# Altium schematic symbol library kmilo17pet-NSC_Switcher.SchLib: 2226 symbols (part 50 of 59)
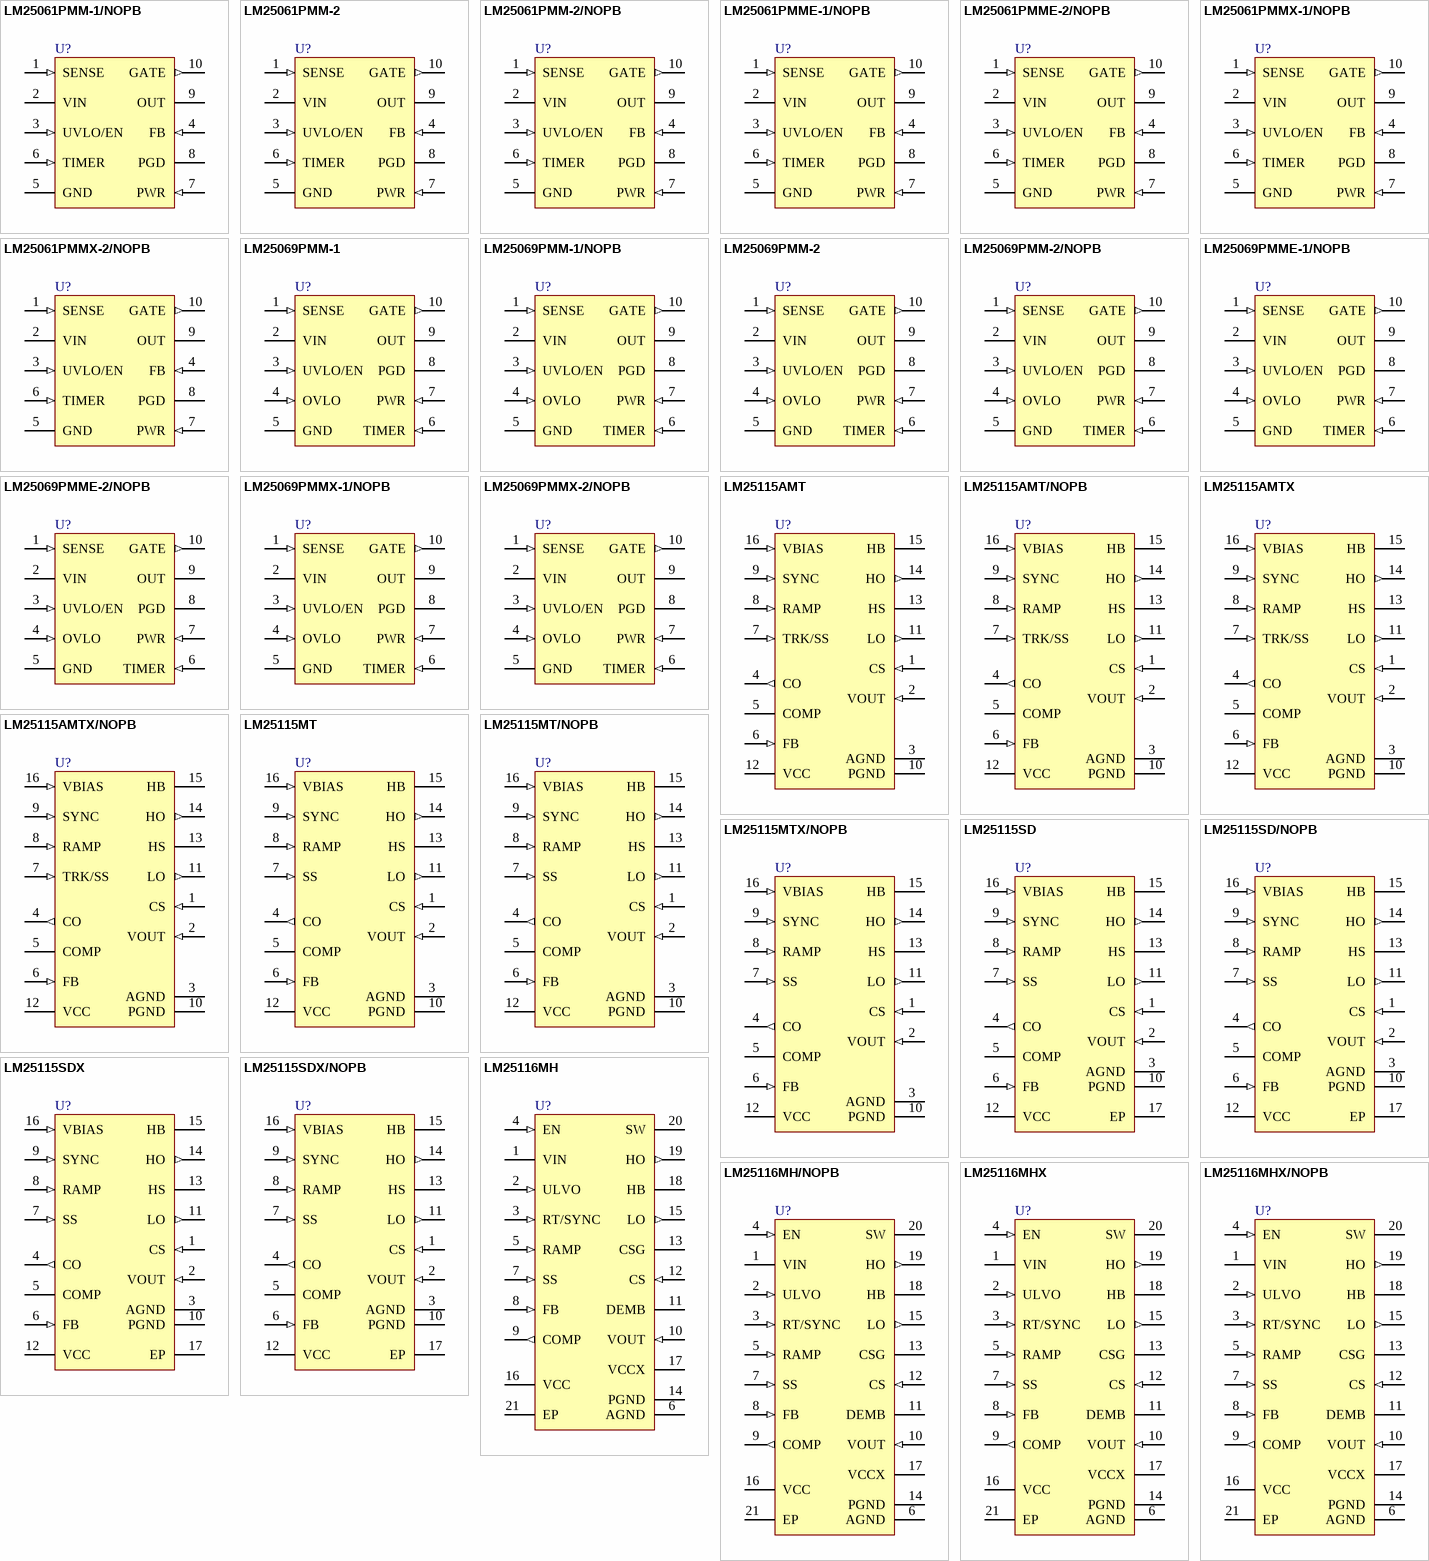
[diagram p118: symbols LM25061PMM-1/NOPB to LM25116MHX/NOPB]

## LM25061PMME-1/NOPB
designator U?
Positive Low Voltage Power Limiting Hot Swap Controller, 10-pin MSOP, Pb-Free; PartNumber: LM25061PMME-1/NOPB; Manufacturer: National Semiconductor; PackageTopMarking: ZXTT*SXSB; PowerWise: N; CompType: Switcher; High-Reliability: Y; DatasheetVersion: Jul-2009; PackageVersion: revB, Jul-2003; PackageReference: MUB10A; PackageDescription: Mini-SO, Molded, .118 x .118 x .034in Body, 10 Lead, .0197in Pitch; RoHS: Y; PinCount: 10; Code_JEDEC: MO-187-BA; ComponentLink1Description: Manufacturer URL; ComponentLink1URL: http://www.national.com/; ComponentLink2Description: LM25061 Datasheet; ComponentLink2URL: http://www.national.com/ds/LM/LM25061.pdf; ComponentLink3Description: LM25061 Web Page; ComponentLink3URL: http://www.national.com/pf/LM/LM25061.html; ComponentLink4Description: MUB10A Package Page; ComponentLink4URL: http://www.national.com/packaging/folders/mub10a.html
footprint MUB10A_N (TSSOP, 10-Leads, Body 3x3mm, Pitch 0.5mm, IPC Medium Density)
footprint MUB10A_L (TSSOP, 10-Leads, Body 3x3mm, Pitch 0.5mm, IPC High Density)
footprint MUB10A_M (TSSOP, 10-Leads, Body 3x3mm, Pitch 0.5mm, IPC Low Density)
pins: 1 SENSE (in), 2 VIN (power), 3 UVLO/EN (in), 4 FB (in), 5 GND (power), 6 TIMER (in), 7 PWR (in), 8 PGD (oc), 9 OUT (power), 10 GATE (out)

## LM25061PMME-2/NOPB
designator U?
Positive Low Voltage Power Limiting Hot Swap Controller, 10-pin MSOP, Pb-Free; PartNumber: LM25061PMME-2/NOPB; Manufacturer: National Semiconductor; PackageTopMarking: ZXTT*SXRB; PowerWise: N; CompType: Switcher; High-Reliability: Y; DatasheetVersion: Jul-2009; PackageVersion: revB, Jul-2003; PackageReference: MUB10A; PackageDescription: Mini-SO, Molded, .118 x .118 x .034in Body, 10 Lead, .0197in Pitch; RoHS: Y; PinCount: 10; Code_JEDEC: MO-187-BA; ComponentLink1Description: Manufacturer URL; ComponentLink1URL: http://www.national.com/; ComponentLink2Description: LM25061 Datasheet; ComponentLink2URL: http://www.national.com/ds/LM/LM25061.pdf; ComponentLink3Description: LM25061 Web Page; ComponentLink3URL: http://www.national.com/pf/LM/LM25061.html; ComponentLink4Description: MUB10A Package Page; ComponentLink4URL: http://www.national.com/packaging/folders/mub10a.html
footprint MUB10A_N (TSSOP, 10-Leads, Body 3x3mm, Pitch 0.5mm, IPC Medium Density)
footprint MUB10A_L (TSSOP, 10-Leads, Body 3x3mm, Pitch 0.5mm, IPC High Density)
footprint MUB10A_M (TSSOP, 10-Leads, Body 3x3mm, Pitch 0.5mm, IPC Low Density)
pins: 1 SENSE (in), 2 VIN (power), 3 UVLO/EN (in), 4 FB (in), 5 GND (power), 6 TIMER (in), 7 PWR (in), 8 PGD (oc), 9 OUT (power), 10 GATE (out)

## LM25061PMMX-1/NOPB
designator U?
Positive Low Voltage Power Limiting Hot Swap Controller, 10-pin MSOP, Pb-Free; PartNumber: LM25061PMMX-1/NOPB; Manufacturer: National Semiconductor; PackageTopMarking: ZXTT*SXSB; PowerWise: N; CompType: Switcher; High-Reliability: Y; DatasheetVersion: Jul-2009; PackageVersion: revB, Jul-2003; PackageReference: MUB10A; PackageDescription: Mini-SO, Molded, .118 x .118 x .034in Body, 10 Lead, .0197in Pitch; RoHS: Y; PinCount: 10; Code_JEDEC: MO-187-BA; ComponentLink1Description: Manufacturer URL; ComponentLink1URL: http://www.national.com/; ComponentLink2Description: LM25061 Datasheet; ComponentLink2URL: http://www.national.com/ds/LM/LM25061.pdf; ComponentLink3Description: LM25061 Web Page; ComponentLink3URL: http://www.national.com/pf/LM/LM25061.html; ComponentLink4Description: MUB10A Package Page; ComponentLink4URL: http://www.national.com/packaging/folders/mub10a.html
footprint MUB10A_N (TSSOP, 10-Leads, Body 3x3mm, Pitch 0.5mm, IPC Medium Density)
footprint MUB10A_L (TSSOP, 10-Leads, Body 3x3mm, Pitch 0.5mm, IPC High Density)
footprint MUB10A_M (TSSOP, 10-Leads, Body 3x3mm, Pitch 0.5mm, IPC Low Density)
pins: 1 SENSE (in), 2 VIN (power), 3 UVLO/EN (in), 4 FB (in), 5 GND (power), 6 TIMER (in), 7 PWR (in), 8 PGD (oc), 9 OUT (power), 10 GATE (out)

## LM25061PMMX-2/NOPB
designator U?
Positive Low Voltage Power Limiting Hot Swap Controller, 10-pin MSOP, Pb-Free; PartNumber: LM25061PMMX-2/NOPB; Manufacturer: National Semiconductor; PackageTopMarking: ZXTT*SXRB; PowerWise: N; CompType: Switcher; High-Reliability: Y; DatasheetVersion: Jul-2009; PackageVersion: revB, Jul-2003; PackageReference: MUB10A; PackageDescription: Mini-SO, Molded, .118 x .118 x .034in Body, 10 Lead, .0197in Pitch; RoHS: Y; PinCount: 10; Code_JEDEC: MO-187-BA; ComponentLink1Description: Manufacturer URL; ComponentLink1URL: http://www.national.com/; ComponentLink2Description: LM25061 Datasheet; ComponentLink2URL: http://www.national.com/ds/LM/LM25061.pdf; ComponentLink3Description: LM25061 Web Page; ComponentLink3URL: http://www.national.com/pf/LM/LM25061.html; ComponentLink4Description: MUB10A Package Page; ComponentLink4URL: http://www.national.com/packaging/folders/mub10a.html
footprint MUB10A_N (TSSOP, 10-Leads, Body 3x3mm, Pitch 0.5mm, IPC Medium Density)
footprint MUB10A_L (TSSOP, 10-Leads, Body 3x3mm, Pitch 0.5mm, IPC High Density)
footprint MUB10A_M (TSSOP, 10-Leads, Body 3x3mm, Pitch 0.5mm, IPC Low Density)
pins: 1 SENSE (in), 2 VIN (power), 3 UVLO/EN (in), 4 FB (in), 5 GND (power), 6 TIMER (in), 7 PWR (in), 8 PGD (oc), 9 OUT (power), 10 GATE (out)

## LM25069PMM-1
designator U?
Positive Low Voltage Power Limiting Hot Swap Controller, 10-pin MSOP; PartNumber: LM25069PMM-1; Manufacturer: National Semiconductor; PackageTopMarking: ZXTT*SXNB; PowerWise: N; CompType: Switcher; High-Reliability: Y; DatasheetVersion: Jul-2009; PackageVersion: revB, Jul-2003; PackageReference: MUB10A; PackageDescription: Mini-SO, Molded, .118 x .118 x .034in Body, 10 Lead, .0197in Pitch; RoHS: Y; PinCount: 10; Code_JEDEC: MO-187-BA; ComponentLink1Description: Manufacturer URL; ComponentLink1URL: http://www.national.com/; ComponentLink2Description: LM25069 Datasheet; ComponentLink2URL: http://www.national.com/ds/LM/LM25069.pdf; ComponentLink3Description: LM25069 Web Page; ComponentLink3URL: http://www.national.com/pf/LM/LM25069.html; ComponentLink4Description: MUB10A Package Page; ComponentLink4URL: http://www.national.com/packaging/folders/mub10a.html
footprint MUB10A_N (TSSOP, 10-Leads, Body 3x3mm, Pitch 0.5mm, IPC Medium Density)
footprint MUB10A_L (TSSOP, 10-Leads, Body 3x3mm, Pitch 0.5mm, IPC High Density)
footprint MUB10A_M (TSSOP, 10-Leads, Body 3x3mm, Pitch 0.5mm, IPC Low Density)
pins: 1 SENSE (in), 2 VIN (power), 3 UVLO/EN (in), 4 OVLO (in), 5 GND (power), 6 TIMER (in), 7 PWR (in), 8 PGD (oc), 9 OUT (power), 10 GATE (out)

## LM25069PMM-1/NOPB
designator U?
Positive Low Voltage Power Limiting Hot Swap Controller, 10-pin MSOP, Pb-Free; PartNumber: LM25069PMM-1/NOPB; Manufacturer: National Semiconductor; PackageTopMarking: ZXTT*SXNB; PowerWise: N; CompType: Switcher; High-Reliability: Y; DatasheetVersion: Jul-2009; PackageVersion: revB, Jul-2003; PackageReference: MUB10A; PackageDescription: Mini-SO, Molded, .118 x .118 x .034in Body, 10 Lead, .0197in Pitch; RoHS: Y; PinCount: 10; Code_JEDEC: MO-187-BA; ComponentLink1Description: Manufacturer URL; ComponentLink1URL: http://www.national.com/; ComponentLink2Description: LM25069 Datasheet; ComponentLink2URL: http://www.national.com/ds/LM/LM25069.pdf; ComponentLink3Description: LM25069 Web Page; ComponentLink3URL: http://www.national.com/pf/LM/LM25069.html; ComponentLink4Description: MUB10A Package Page; ComponentLink4URL: http://www.national.com/packaging/folders/mub10a.html
footprint MUB10A_N (TSSOP, 10-Leads, Body 3x3mm, Pitch 0.5mm, IPC Medium Density)
footprint MUB10A_L (TSSOP, 10-Leads, Body 3x3mm, Pitch 0.5mm, IPC High Density)
footprint MUB10A_M (TSSOP, 10-Leads, Body 3x3mm, Pitch 0.5mm, IPC Low Density)
pins: 1 SENSE (in), 2 VIN (power), 3 UVLO/EN (in), 4 OVLO (in), 5 GND (power), 6 TIMER (in), 7 PWR (in), 8 PGD (oc), 9 OUT (power), 10 GATE (out)

## LM25069PMM-2
designator U?
Positive Low Voltage Power Limiting Hot Swap Controller, 10-pin MSOP; PartNumber: LM25069PMM-2; Manufacturer: National Semiconductor; PackageTopMarking: ZXTT*SXLB; PowerWise: N; CompType: Switcher; High-Reliability: Y; DatasheetVersion: Jul-2009; PackageVersion: revB, Jul-2003; PackageReference: MUB10A; PackageDescription: Mini-SO, Molded, .118 x .118 x .034in Body, 10 Lead, .0197in Pitch; RoHS: Y; PinCount: 10; Code_JEDEC: MO-187-BA; ComponentLink1Description: Manufacturer URL; ComponentLink1URL: http://www.national.com/; ComponentLink2Description: LM25069 Datasheet; ComponentLink2URL: http://www.national.com/ds/LM/LM25069.pdf; ComponentLink3Description: LM25069 Web Page; ComponentLink3URL: http://www.national.com/pf/LM/LM25069.html; ComponentLink4Description: MUB10A Package Page; ComponentLink4URL: http://www.national.com/packaging/folders/mub10a.html
footprint MUB10A_N (TSSOP, 10-Leads, Body 3x3mm, Pitch 0.5mm, IPC Medium Density)
footprint MUB10A_L (TSSOP, 10-Leads, Body 3x3mm, Pitch 0.5mm, IPC High Density)
footprint MUB10A_M (TSSOP, 10-Leads, Body 3x3mm, Pitch 0.5mm, IPC Low Density)
pins: 1 SENSE (in), 2 VIN (power), 3 UVLO/EN (in), 4 OVLO (in), 5 GND (power), 6 TIMER (in), 7 PWR (in), 8 PGD (oc), 9 OUT (power), 10 GATE (out)

## LM25069PMM-2/NOPB
designator U?
Positive Low Voltage Power Limiting Hot Swap Controller, 10-pin MSOP, Pb-Free; PartNumber: LM25069PMM-2/NOPB; Manufacturer: National Semiconductor; PackageTopMarking: ZXTT*SXLB; PowerWise: N; CompType: Switcher; High-Reliability: Y; DatasheetVersion: Jul-2009; PackageVersion: revB, Jul-2003; PackageReference: MUB10A; PackageDescription: Mini-SO, Molded, .118 x .118 x .034in Body, 10 Lead, .0197in Pitch; RoHS: Y; PinCount: 10; Code_JEDEC: MO-187-BA; ComponentLink1Description: Manufacturer URL; ComponentLink1URL: http://www.national.com/; ComponentLink2Description: LM25069 Datasheet; ComponentLink2URL: http://www.national.com/ds/LM/LM25069.pdf; ComponentLink3Description: LM25069 Web Page; ComponentLink3URL: http://www.national.com/pf/LM/LM25069.html; ComponentLink4Description: MUB10A Package Page; ComponentLink4URL: http://www.national.com/packaging/folders/mub10a.html
footprint MUB10A_N (TSSOP, 10-Leads, Body 3x3mm, Pitch 0.5mm, IPC Medium Density)
footprint MUB10A_L (TSSOP, 10-Leads, Body 3x3mm, Pitch 0.5mm, IPC High Density)
footprint MUB10A_M (TSSOP, 10-Leads, Body 3x3mm, Pitch 0.5mm, IPC Low Density)
pins: 1 SENSE (in), 2 VIN (power), 3 UVLO/EN (in), 4 OVLO (in), 5 GND (power), 6 TIMER (in), 7 PWR (in), 8 PGD (oc), 9 OUT (power), 10 GATE (out)

## LM25069PMME-1/NOPB
designator U?
Positive Low Voltage Power Limiting Hot Swap Controller, 10-pin MSOP, Pb-Free; PartNumber: LM25069PMME-1/NOPB; Manufacturer: National Semiconductor; PackageTopMarking: ZXTT*SXNB; PowerWise: N; CompType: Switcher; High-Reliability: Y; DatasheetVersion: Jul-2009; PackageVersion: revB, Jul-2003; PackageReference: MUB10A; PackageDescription: Mini-SO, Molded, .118 x .118 x .034in Body, 10 Lead, .0197in Pitch; RoHS: Y; PinCount: 10; Code_JEDEC: MO-187-BA; ComponentLink1Description: Manufacturer URL; ComponentLink1URL: http://www.national.com/; ComponentLink2Description: LM25069 Datasheet; ComponentLink2URL: http://www.national.com/ds/LM/LM25069.pdf; ComponentLink3Description: LM25069 Web Page; ComponentLink3URL: http://www.national.com/pf/LM/LM25069.html; ComponentLink4Description: MUB10A Package Page; ComponentLink4URL: http://www.national.com/packaging/folders/mub10a.html
footprint MUB10A_N (TSSOP, 10-Leads, Body 3x3mm, Pitch 0.5mm, IPC Medium Density)
footprint MUB10A_L (TSSOP, 10-Leads, Body 3x3mm, Pitch 0.5mm, IPC High Density)
footprint MUB10A_M (TSSOP, 10-Leads, Body 3x3mm, Pitch 0.5mm, IPC Low Density)
pins: 1 SENSE (in), 2 VIN (power), 3 UVLO/EN (in), 4 OVLO (in), 5 GND (power), 6 TIMER (in), 7 PWR (in), 8 PGD (oc), 9 OUT (power), 10 GATE (out)

## LM25069PMME-2/NOPB
designator U?
Positive Low Voltage Power Limiting Hot Swap Controller, 10-pin MSOP, Pb-Free; PartNumber: LM25069PMME-2/NOPB; Manufacturer: National Semiconductor; PackageTopMarking: ZXTT*SXLB; PowerWise: N; CompType: Switcher; High-Reliability: Y; DatasheetVersion: Jul-2009; PackageVersion: revB, Jul-2003; PackageReference: MUB10A; PackageDescription: Mini-SO, Molded, .118 x .118 x .034in Body, 10 Lead, .0197in Pitch; RoHS: Y; PinCount: 10; Code_JEDEC: MO-187-BA; ComponentLink1Description: Manufacturer URL; ComponentLink1URL: http://www.national.com/; ComponentLink2Description: LM25069 Datasheet; ComponentLink2URL: http://www.national.com/ds/LM/LM25069.pdf; ComponentLink3Description: LM25069 Web Page; ComponentLink3URL: http://www.national.com/pf/LM/LM25069.html; ComponentLink4Description: MUB10A Package Page; ComponentLink4URL: http://www.national.com/packaging/folders/mub10a.html
footprint MUB10A_N (TSSOP, 10-Leads, Body 3x3mm, Pitch 0.5mm, IPC Medium Density)
footprint MUB10A_L (TSSOP, 10-Leads, Body 3x3mm, Pitch 0.5mm, IPC High Density)
footprint MUB10A_M (TSSOP, 10-Leads, Body 3x3mm, Pitch 0.5mm, IPC Low Density)
pins: 1 SENSE (in), 2 VIN (power), 3 UVLO/EN (in), 4 OVLO (in), 5 GND (power), 6 TIMER (in), 7 PWR (in), 8 PGD (oc), 9 OUT (power), 10 GATE (out)

## LM25069PMMX-1/NOPB
designator U?
Positive Low Voltage Power Limiting Hot Swap Controller, 10-pin MSOP, Pb-Free; PartNumber: LM25069PMMX-1/NOPB; Manufacturer: National Semiconductor; PackageTopMarking: ZXTT*SXNB; PowerWise: N; CompType: Switcher; High-Reliability: Y; DatasheetVersion: Jul-2009; PackageVersion: revB, Jul-2003; PackageReference: MUB10A; PackageDescription: Mini-SO, Molded, .118 x .118 x .034in Body, 10 Lead, .0197in Pitch; RoHS: Y; PinCount: 10; Code_JEDEC: MO-187-BA; ComponentLink1Description: Manufacturer URL; ComponentLink1URL: http://www.national.com/; ComponentLink2Description: LM25069 Datasheet; ComponentLink2URL: http://www.national.com/ds/LM/LM25069.pdf; ComponentLink3Description: LM25069 Web Page; ComponentLink3URL: http://www.national.com/pf/LM/LM25069.html; ComponentLink4Description: MUB10A Package Page; ComponentLink4URL: http://www.national.com/packaging/folders/mub10a.html
footprint MUB10A_N (TSSOP, 10-Leads, Body 3x3mm, Pitch 0.5mm, IPC Medium Density)
footprint MUB10A_L (TSSOP, 10-Leads, Body 3x3mm, Pitch 0.5mm, IPC High Density)
footprint MUB10A_M (TSSOP, 10-Leads, Body 3x3mm, Pitch 0.5mm, IPC Low Density)
pins: 1 SENSE (in), 2 VIN (power), 3 UVLO/EN (in), 4 OVLO (in), 5 GND (power), 6 TIMER (in), 7 PWR (in), 8 PGD (oc), 9 OUT (power), 10 GATE (out)

## LM25069PMMX-2/NOPB
designator U?
Positive Low Voltage Power Limiting Hot Swap Controller, 10-pin MSOP, Pb-Free; PartNumber: LM25069PMMX-2/NOPB; Manufacturer: National Semiconductor; PackageTopMarking: ZXTT*SXLB; PowerWise: N; CompType: Switcher; High-Reliability: Y; DatasheetVersion: Jul-2009; PackageVersion: revB, Jul-2003; PackageReference: MUB10A; PackageDescription: Mini-SO, Molded, .118 x .118 x .034in Body, 10 Lead, .0197in Pitch; RoHS: Y; PinCount: 10; Code_JEDEC: MO-187-BA; ComponentLink1Description: Manufacturer URL; ComponentLink1URL: http://www.national.com/; ComponentLink2Description: LM25069 Datasheet; ComponentLink2URL: http://www.national.com/ds/LM/LM25069.pdf; ComponentLink3Description: LM25069 Web Page; ComponentLink3URL: http://www.national.com/pf/LM/LM25069.html; ComponentLink4Description: MUB10A Package Page; ComponentLink4URL: http://www.national.com/packaging/folders/mub10a.html
footprint MUB10A_N (TSSOP, 10-Leads, Body 3x3mm, Pitch 0.5mm, IPC Medium Density)
footprint MUB10A_L (TSSOP, 10-Leads, Body 3x3mm, Pitch 0.5mm, IPC High Density)
footprint MUB10A_M (TSSOP, 10-Leads, Body 3x3mm, Pitch 0.5mm, IPC Low Density)
pins: 1 SENSE (in), 2 VIN (power), 3 UVLO/EN (in), 4 OVLO (in), 5 GND (power), 6 TIMER (in), 7 PWR (in), 8 PGD (oc), 9 OUT (power), 10 GATE (out)

## LM25115AMT
designator U?
Secondary Side Post Regulator/DC-DC Converter with Power-Up/Power-Down Tracking, 16-pin TSSOP; PartNumber: LM25115AMT; Manufacturer: National Semiconductor; PackageTopMarking: NSUZXYTT*L25115*AMT; PowerWise: N; CompType: Switcher; High-Reliability: Y; DatasheetVersion: Mar-2007; PackageVersion: revD, Jun-2003; PackageReference: MTC16; PackageDescription: Molded TSSOP, Jedec, 5 x 4.4 x 0.9mm Body, 16 Lead, 0.65mm Pitch; RoHS: N; PinCount: 16; Code_JEDEC: MO-153-AB; ComponentLink1Description: Manufacturer URL; ComponentLink1URL: http://www.national.com/; ComponentLink2Description: LM25115A Datasheet; ComponentLink2URL: http://www.national.com/ds/LM/LM25115A.pdf; ComponentLink3Description: LM25115A Web Page; ComponentLink3URL: http://www.national.com/pf/LM/LM25115A.html; ComponentLink4Description: MTC16 Package Page; ComponentLink4URL: http://www.national.com/packaging/folders/mtc16.html
footprint MTC16_N (TSOP, 16-Leads, Body 5x4.4mm, Pitch 0.65mm, IPC Medium Density)
footprint MTC16_L (TSOP, 16-Leads, Body 5x4.4mm, Pitch 0.65mm, IPC High Density)
footprint MTC16_M (TSOP, 16-Leads, Body 5x4.4mm, Pitch 0.65mm, IPC Low Density)
pins: 1 CS (in), 2 VOUT (in), 3 AGND (power), 4 CO (out), 5 COMP, 6 FB (in), 7 TRK/SS (in), 8 RAMP (in), 9 SYNC (in), 10 PGND (power), 11 LO (out), 12 VCC (power), 13 HS, 14 HO (out), 15 HB, 16 VBIAS (in)

## LM25115AMT/NOPB
designator U?
Secondary Side Post Regulator/DC-DC Converter with Power-Up/Power-Down Tracking, 16-pin TSSOP, Pb-Free; PartNumber: LM25115AMT/NOPB; Manufacturer: National Semiconductor; PackageTopMarking: NSUZXYTT*L25115*AMT; PowerWise: N; CompType: Switcher; High-Reliability: Y; DatasheetVersion: Mar-2007; PackageVersion: revD, Jun-2003; PackageReference: MTC16; PackageDescription: Molded TSSOP, Jedec, 5 x 4.4 x 0.9mm Body, 16 Lead, 0.65mm Pitch; RoHS: Y; PinCount: 16; Code_JEDEC: MO-153-AB; ComponentLink1Description: Manufacturer URL; ComponentLink1URL: http://www.national.com/; ComponentLink2Description: LM25115A Datasheet; ComponentLink2URL: http://www.national.com/ds/LM/LM25115A.pdf; ComponentLink3Description: LM25115A Web Page; ComponentLink3URL: http://www.national.com/pf/LM/LM25115A.html; ComponentLink4Description: MTC16 Package Page; ComponentLink4URL: http://www.national.com/packaging/folders/mtc16.html
footprint MTC16_N (TSOP, 16-Leads, Body 5x4.4mm, Pitch 0.65mm, IPC Medium Density)
footprint MTC16_L (TSOP, 16-Leads, Body 5x4.4mm, Pitch 0.65mm, IPC High Density)
footprint MTC16_M (TSOP, 16-Leads, Body 5x4.4mm, Pitch 0.65mm, IPC Low Density)
pins: 1 CS (in), 2 VOUT (in), 3 AGND (power), 4 CO (out), 5 COMP, 6 FB (in), 7 TRK/SS (in), 8 RAMP (in), 9 SYNC (in), 10 PGND (power), 11 LO (out), 12 VCC (power), 13 HS, 14 HO (out), 15 HB, 16 VBIAS (in)

## LM25115AMTX
designator U?
Secondary Side Post Regulator/DC-DC Converter with Power-Up/Power-Down Tracking, 16-pin TSSOP; PartNumber: LM25115AMTX; Manufacturer: National Semiconductor; PackageTopMarking: NSUZXYTT*L25115*AMT; PowerWise: N; CompType: Switcher; High-Reliability: Y; DatasheetVersion: Mar-2007; PackageVersion: revD, Jun-2003; PackageReference: MTC16; PackageDescription: Molded TSSOP, Jedec, 5 x 4.4 x 0.9mm Body, 16 Lead, 0.65mm Pitch; RoHS: N; PinCount: 16; Code_JEDEC: MO-153-AB; ComponentLink1Description: Manufacturer URL; ComponentLink1URL: http://www.national.com/; ComponentLink2Description: LM25115A Datasheet; ComponentLink2URL: http://www.national.com/ds/LM/LM25115A.pdf; ComponentLink3Description: LM25115A Web Page; ComponentLink3URL: http://www.national.com/pf/LM/LM25115A.html; ComponentLink4Description: MTC16 Package Page; ComponentLink4URL: http://www.national.com/packaging/folders/mtc16.html
footprint MTC16_N (TSOP, 16-Leads, Body 5x4.4mm, Pitch 0.65mm, IPC Medium Density)
footprint MTC16_L (TSOP, 16-Leads, Body 5x4.4mm, Pitch 0.65mm, IPC High Density)
footprint MTC16_M (TSOP, 16-Leads, Body 5x4.4mm, Pitch 0.65mm, IPC Low Density)
pins: 1 CS (in), 2 VOUT (in), 3 AGND (power), 4 CO (out), 5 COMP, 6 FB (in), 7 TRK/SS (in), 8 RAMP (in), 9 SYNC (in), 10 PGND (power), 11 LO (out), 12 VCC (power), 13 HS, 14 HO (out), 15 HB, 16 VBIAS (in)

## LM25115AMTX/NOPB
designator U?
Secondary Side Post Regulator/DC-DC Converter with Power-Up/Power-Down Tracking, 16-pin TSSOP, Pb-Free; PartNumber: LM25115AMTX/NOPB; Manufacturer: National Semiconductor; PackageTopMarking: NSUZXYTT*L25115*AMT; PowerWise: N; CompType: Switcher; High-Reliability: Y; DatasheetVersion: Mar-2007; PackageVersion: revD, Jun-2003; PackageReference: MTC16; PackageDescription: Molded TSSOP, Jedec, 5 x 4.4 x 0.9mm Body, 16 Lead, 0.65mm Pitch; RoHS: Y; PinCount: 16; Code_JEDEC: MO-153-AB; ComponentLink1Description: Manufacturer URL; ComponentLink1URL: http://www.national.com/; ComponentLink2Description: LM25115A Datasheet; ComponentLink2URL: http://www.national.com/ds/LM/LM25115A.pdf; ComponentLink3Description: LM25115A Web Page; ComponentLink3URL: http://www.national.com/pf/LM/LM25115A.html; ComponentLink4Description: MTC16 Package Page; ComponentLink4URL: http://www.national.com/packaging/folders/mtc16.html
footprint MTC16_N (TSOP, 16-Leads, Body 5x4.4mm, Pitch 0.65mm, IPC Medium Density)
footprint MTC16_L (TSOP, 16-Leads, Body 5x4.4mm, Pitch 0.65mm, IPC High Density)
footprint MTC16_M (TSOP, 16-Leads, Body 5x4.4mm, Pitch 0.65mm, IPC Low Density)
pins: 1 CS (in), 2 VOUT (in), 3 AGND (power), 4 CO (out), 5 COMP, 6 FB (in), 7 TRK/SS (in), 8 RAMP (in), 9 SYNC (in), 10 PGND (power), 11 LO (out), 12 VCC (power), 13 HS, 14 HO (out), 15 HB, 16 VBIAS (in)

## LM25115MT
designator U?
Secondary Side Post Regulator Controller, 16-pin TSSOP; PartNumber: LM25115MT; Manufacturer: National Semiconductor; PackageTopMarking: NSUZXYTT*L25115*MT; PowerWise: N; CompType: Switcher; High-Reliability: Y; DatasheetVersion: Nov-2005; PackageVersion: revD, Jun-2003; PackageReference: MTC16; PackageDescription: Molded TSSOP, Jedec, 5 x 4.4 x 0.9mm Body, 16 Lead, 0.65mm Pitch; RoHS: Y; PinCount: 16; Code_JEDEC: MO-153-AB; ComponentLink1Description: Manufacturer URL; ComponentLink1URL: http://www.national.com/; ComponentLink2Description: LM25115 Datasheet; ComponentLink2URL: http://www.national.com/ds/LM/LM25115.pdf; ComponentLink3Description: LM25115 Web Page; ComponentLink3URL: http://www.national.com/pf/LM/LM25115.html; ComponentLink4Description: MTC16 Package Page; ComponentLink4URL: http://www.national.com/packaging/folders/mtc16.html
footprint MTC16_N (TSOP, 16-Leads, Body 5x4.4mm, Pitch 0.65mm, IPC Medium Density)
footprint MTC16_L (TSOP, 16-Leads, Body 5x4.4mm, Pitch 0.65mm, IPC High Density)
footprint MTC16_M (TSOP, 16-Leads, Body 5x4.4mm, Pitch 0.65mm, IPC Low Density)
pins: 1 CS (in), 2 VOUT (in), 3 AGND (power), 4 CO (out), 5 COMP, 6 FB (in), 7 SS (in), 8 RAMP (in), 9 SYNC (in), 10 PGND (power), 11 LO (out), 12 VCC (power), 13 HS, 14 HO (out), 15 HB, 16 VBIAS (in)

## LM25115MT/NOPB
designator U?
Secondary Side Post Regulator Controller, 16-pin TSSOP, Pb-Free; PartNumber: LM25115MT/NOPB; Manufacturer: National Semiconductor; PackageTopMarking: NSUZXYTT*L25115*MT; PowerWise: N; CompType: Switcher; High-Reliability: Y; DatasheetVersion: Nov-2005; PackageVersion: revD, Jun-2003; PackageReference: MTC16; PackageDescription: Molded TSSOP, Jedec, 5 x 4.4 x 0.9mm Body, 16 Lead, 0.65mm Pitch; RoHS: Y; PinCount: 16; Code_JEDEC: MO-153-AB; ComponentLink1Description: Manufacturer URL; ComponentLink1URL: http://www.national.com/; ComponentLink2Description: LM25115 Datasheet; ComponentLink2URL: http://www.national.com/ds/LM/LM25115.pdf; ComponentLink3Description: LM25115 Web Page; ComponentLink3URL: http://www.national.com/pf/LM/LM25115.html; ComponentLink4Description: MTC16 Package Page; ComponentLink4URL: http://www.national.com/packaging/folders/mtc16.html
footprint MTC16_N (TSOP, 16-Leads, Body 5x4.4mm, Pitch 0.65mm, IPC Medium Density)
footprint MTC16_L (TSOP, 16-Leads, Body 5x4.4mm, Pitch 0.65mm, IPC High Density)
footprint MTC16_M (TSOP, 16-Leads, Body 5x4.4mm, Pitch 0.65mm, IPC Low Density)
pins: 1 CS (in), 2 VOUT (in), 3 AGND (power), 4 CO (out), 5 COMP, 6 FB (in), 7 SS (in), 8 RAMP (in), 9 SYNC (in), 10 PGND (power), 11 LO (out), 12 VCC (power), 13 HS, 14 HO (out), 15 HB, 16 VBIAS (in)

## LM25115MTX/NOPB
designator U?
Secondary Side Post Regulator Controller, 16-pin TSSOP, Pb-Free; PartNumber: LM25115MTX/NOPB; Manufacturer: National Semiconductor; PackageTopMarking: NSUZXYTT*L25115*MT; PowerWise: N; CompType: Switcher; High-Reliability: Y; DatasheetVersion: Nov-2005; PackageVersion: revD, Jun-2003; PackageReference: MTC16; PackageDescription: Molded TSSOP, Jedec, 5 x 4.4 x 0.9mm Body, 16 Lead, 0.65mm Pitch; RoHS: Y; PinCount: 16; Code_JEDEC: MO-153-AB; ComponentLink1Description: Manufacturer URL; ComponentLink1URL: http://www.national.com/; ComponentLink2Description: LM25115 Datasheet; ComponentLink2URL: http://www.national.com/ds/LM/LM25115.pdf; ComponentLink3Description: LM25115 Web Page; ComponentLink3URL: http://www.national.com/pf/LM/LM25115.html; ComponentLink4Description: MTC16 Package Page; ComponentLink4URL: http://www.national.com/packaging/folders/mtc16.html
footprint MTC16_N (TSOP, 16-Leads, Body 5x4.4mm, Pitch 0.65mm, IPC Medium Density)
footprint MTC16_L (TSOP, 16-Leads, Body 5x4.4mm, Pitch 0.65mm, IPC High Density)
footprint MTC16_M (TSOP, 16-Leads, Body 5x4.4mm, Pitch 0.65mm, IPC Low Density)
pins: 1 CS (in), 2 VOUT (in), 3 AGND (power), 4 CO (out), 5 COMP, 6 FB (in), 7 SS (in), 8 RAMP (in), 9 SYNC (in), 10 PGND (power), 11 LO (out), 12 VCC (power), 13 HS, 14 HO (out), 15 HB, 16 VBIAS (in)

## LM25115SD
designator U?
Secondary Side Post Regulator Controller, 16-pin LLP; PartNumber: LM25115SD; Manufacturer: National Semiconductor; PackageTopMarking: NS*UZXYTT*L25115; PowerWise: N; CompType: Switcher; High-Reliability: Y; DatasheetVersion: Nov-2005; PackageVersion: revA, May-2003; PackageReference: SDA16A; PackageDescription: LLP, Plastic, Dual, 5 x 5 x 0.8mm Body,16 Lead, 0.5mm Pitch, No Pullback; RoHS: N; PinCount: 16; ComponentLink1Description: Manufacturer URL; ComponentLink1URL: http://www.national.com/; ComponentLink2Description: LM25115 Datasheet; ComponentLink2URL: http://www.national.com/ds/LM/LM25115.pdf; ComponentLink3Description: LM25115 Web Page; ComponentLink3URL: http://www.national.com/pf/LM/LM25115.html; ComponentLink4Description: SDA16A Package Page; ComponentLink4URL: http://www.national.com/packaging/folders/sda16a.html
footprint SDA16A (SON, 16-Leads, Body 5x5mm, Pitch 0.5mm, NSC Recommended)
pins: 1 CS (in), 2 VOUT (in), 3 AGND (power), 4 CO (out), 5 COMP, 6 FB (in), 7 SS (in), 8 RAMP (in), 9 SYNC (in), 10 PGND (power), 11 LO (out), 12 VCC (power), 13 HS, 14 HO (out), 15 HB, 16 VBIAS (in), 17 EP (power)

## LM25115SD/NOPB
designator U?
Secondary Side Post Regulator Controller, 16-pin LLP, Pb-Free; PartNumber: LM25115SD/NOPB; Manufacturer: National Semiconductor; PackageTopMarking: NS*UZXYTT*L25115; PowerWise: N; CompType: Switcher; High-Reliability: Y; DatasheetVersion: Nov-2005; PackageVersion: revA, May-2003; PackageReference: SDA16A; PackageDescription: LLP, Plastic, Dual, 5 x 5 x 0.8mm Body,16 Lead, 0.5mm Pitch, No Pullback; RoHS: Y; PinCount: 16; ComponentLink1Description: Manufacturer URL; ComponentLink1URL: http://www.national.com/; ComponentLink2Description: LM25115 Datasheet; ComponentLink2URL: http://www.national.com/ds/LM/LM25115.pdf; ComponentLink3Description: LM25115 Web Page; ComponentLink3URL: http://www.national.com/pf/LM/LM25115.html; ComponentLink4Description: SDA16A Package Page; ComponentLink4URL: http://www.national.com/packaging/folders/sda16a.html
footprint SDA16A (SON, 16-Leads, Body 5x5mm, Pitch 0.5mm, NSC Recommended)
pins: 1 CS (in), 2 VOUT (in), 3 AGND (power), 4 CO (out), 5 COMP, 6 FB (in), 7 SS (in), 8 RAMP (in), 9 SYNC (in), 10 PGND (power), 11 LO (out), 12 VCC (power), 13 HS, 14 HO (out), 15 HB, 16 VBIAS (in), 17 EP (power)

## LM25115SDX
designator U?
Secondary Side Post Regulator Controller, 16-pin LLP; PartNumber: LM25115SDX; Manufacturer: National Semiconductor; PackageTopMarking: NS*UZXYTT*L25115; PowerWise: N; CompType: Switcher; High-Reliability: Y; DatasheetVersion: Nov-2005; PackageVersion: revA, May-2003; PackageReference: SDA16A; PackageDescription: LLP, Plastic, Dual, 5 x 5 x 0.8mm Body,16 Lead, 0.5mm Pitch, No Pullback; RoHS: N; PinCount: 16; ComponentLink1Description: Manufacturer URL; ComponentLink1URL: http://www.national.com/; ComponentLink2Description: LM25115 Datasheet; ComponentLink2URL: http://www.national.com/ds/LM/LM25115.pdf; ComponentLink3Description: LM25115 Web Page; ComponentLink3URL: http://www.national.com/pf/LM/LM25115.html; ComponentLink4Description: SDA16A Package Page; ComponentLink4URL: http://www.national.com/packaging/folders/sda16a.html
footprint SDA16A (SON, 16-Leads, Body 5x5mm, Pitch 0.5mm, NSC Recommended)
pins: 1 CS (in), 2 VOUT (in), 3 AGND (power), 4 CO (out), 5 COMP, 6 FB (in), 7 SS (in), 8 RAMP (in), 9 SYNC (in), 10 PGND (power), 11 LO (out), 12 VCC (power), 13 HS, 14 HO (out), 15 HB, 16 VBIAS (in), 17 EP (power)

## LM25115SDX/NOPB
designator U?
Secondary Side Post Regulator Controller, 16-pin LLP, Pb-Free; PartNumber: LM25115SDX/NOPB; Manufacturer: National Semiconductor; PackageTopMarking: NS*UZXYTT*L25115; PowerWise: N; CompType: Switcher; High-Reliability: Y; DatasheetVersion: Nov-2005; PackageVersion: revA, May-2003; PackageReference: SDA16A; PackageDescription: LLP, Plastic, Dual, 5 x 5 x 0.8mm Body,16 Lead, 0.5mm Pitch, No Pullback; RoHS: Y; PinCount: 16; ComponentLink1Description: Manufacturer URL; ComponentLink1URL: http://www.national.com/; ComponentLink2Description: LM25115 Datasheet; ComponentLink2URL: http://www.national.com/ds/LM/LM25115.pdf; ComponentLink3Description: LM25115 Web Page; ComponentLink3URL: http://www.national.com/pf/LM/LM25115.html; ComponentLink4Description: SDA16A Package Page; ComponentLink4URL: http://www.national.com/packaging/folders/sda16a.html
footprint SDA16A (SON, 16-Leads, Body 5x5mm, Pitch 0.5mm, NSC Recommended)
pins: 1 CS (in), 2 VOUT (in), 3 AGND (power), 4 CO (out), 5 COMP, 6 FB (in), 7 SS (in), 8 RAMP (in), 9 SYNC (in), 10 PGND (power), 11 LO (out), 12 VCC (power), 13 HS, 14 HO (out), 15 HB, 16 VBIAS (in), 17 EP (power)

## LM25116MH
designator U?
Wide Range Synchronous Buck Controller, 20-pin TSSOP-EP; PartNumber: LM25116MH; Manufacturer: National Semiconductor; PackageTopMarking: NSUZXYTT*LM25116*MH; PowerWise: Y; CompType: Switcher; DatasheetVersion: Apr-2007; PackageVersion: revC, Jul-2006; PackageReference: MXA20A; PackageDescription: Molded TSSOP, Jedec, 6.5 x 4.4 x 0.9mm Body, 20 Lead, 0.65mm Pitch, Exposed Pad; RoHS: N; PinCount: 20; High-Reliability: Y; Code_JEDEC: MO-153-ACT; ComponentLink1Description: Manufacturer URL; ComponentLink1URL: http://www.national.com/; ComponentLink2Description: LM25116 Datasheet; ComponentLink2URL: http://www.national.com/ds/LM/LM25116.pdf; ComponentLink3Description: LM25116 Web Page; ComponentLink3URL: http://www.national.com/pf/LM/LM25116.html; ComponentLink4Description: MXA20A Package Page; ComponentLink4URL: http://www.national.com/packaging/folders/mxa20a.html
footprint MXA20A_N (TSOP, 20-Leads, Body 6.5x4.4mm, Pitch 0.65mm, Thermal Pad, IPC Medium Density)
footprint MXA20A_L (TSOP, 20-Leads, Body 6.5x4.4mm, Pitch 0.65mm, Thermal Pad, IPC High Density)
footprint MXA20A_M (TSOP, 20-Leads, Body 6.5x4.4mm, Pitch 0.65mm, Thermal Pad, IPC Low Density)
pins: 1 VIN (power), 2 ULVO (in), 3 RT/SYNC (in), 4 EN (in), 5 RAMP (in), 6 AGND (power), 7 SS (in), 8 FB (in), 9 COMP (out), 10 VOUT (in), 11 DEMB, 12 CS (in), 13 CSG, 14 PGND (power), 15 LO (out), 16 VCC (power), 17 VCCX (power), 18 HB, 19 HO (out), 20 SW (power), 21 EP (power)

## LM25116MH/NOPB
designator U?
Wide Range Synchronous Buck Controller, 20-pin TSSOP-EP, Pb-Free; PartNumber: LM25116MH/NOPB; Manufacturer: National Semiconductor; PackageTopMarking: NSUZXYTT*LM25116*MH; PowerWise: Y; CompType: Switcher; DatasheetVersion: Apr-2007; PackageVersion: revC, Jul-2006; PackageReference: MXA20A; PackageDescription: Molded TSSOP, Jedec, 6.5 x 4.4 x 0.9mm Body, 20 Lead, 0.65mm Pitch, Exposed Pad; RoHS: Y; PinCount: 20; High-Reliability: Y; Code_JEDEC: MO-153-ACT; ComponentLink1Description: Manufacturer URL; ComponentLink1URL: http://www.national.com/; ComponentLink2Description: LM25116 Datasheet; ComponentLink2URL: http://www.national.com/ds/LM/LM25116.pdf; ComponentLink3Description: LM25116 Web Page; ComponentLink3URL: http://www.national.com/pf/LM/LM25116.html; ComponentLink4Description: MXA20A Package Page; ComponentLink4URL: http://www.national.com/packaging/folders/mxa20a.html
footprint MXA20A_N (TSOP, 20-Leads, Body 6.5x4.4mm, Pitch 0.65mm, Thermal Pad, IPC Medium Density)
footprint MXA20A_L (TSOP, 20-Leads, Body 6.5x4.4mm, Pitch 0.65mm, Thermal Pad, IPC High Density)
footprint MXA20A_M (TSOP, 20-Leads, Body 6.5x4.4mm, Pitch 0.65mm, Thermal Pad, IPC Low Density)
pins: 1 VIN (power), 2 ULVO (in), 3 RT/SYNC (in), 4 EN (in), 5 RAMP (in), 6 AGND (power), 7 SS (in), 8 FB (in), 9 COMP (out), 10 VOUT (in), 11 DEMB, 12 CS (in), 13 CSG, 14 PGND (power), 15 LO (out), 16 VCC (power), 17 VCCX (power), 18 HB, 19 HO (out), 20 SW (power), 21 EP (power)

## LM25116MHX
designator U?
Wide Range Synchronous Buck Controller, 20-pin TSSOP-EP; PartNumber: LM25116MHX; Manufacturer: National Semiconductor; PackageTopMarking: NSUZXYTT*LM25116*MH; PowerWise: Y; CompType: Switcher; DatasheetVersion: Apr-2007; PackageVersion: revC, Jul-2006; PackageReference: MXA20A; PackageDescription: Molded TSSOP, Jedec, 6.5 x 4.4 x 0.9mm Body, 20 Lead, 0.65mm Pitch, Exposed Pad; RoHS: N; PinCount: 20; High-Reliability: Y; Code_JEDEC: MO-153-ACT; ComponentLink1Description: Manufacturer URL; ComponentLink1URL: http://www.national.com/; ComponentLink2Description: LM25116 Datasheet; ComponentLink2URL: http://www.national.com/ds/LM/LM25116.pdf; ComponentLink3Description: LM25116 Web Page; ComponentLink3URL: http://www.national.com/pf/LM/LM25116.html; ComponentLink4Description: MXA20A Package Page; ComponentLink4URL: http://www.national.com/packaging/folders/mxa20a.html
footprint MXA20A_N (TSOP, 20-Leads, Body 6.5x4.4mm, Pitch 0.65mm, Thermal Pad, IPC Medium Density)
footprint MXA20A_L (TSOP, 20-Leads, Body 6.5x4.4mm, Pitch 0.65mm, Thermal Pad, IPC High Density)
footprint MXA20A_M (TSOP, 20-Leads, Body 6.5x4.4mm, Pitch 0.65mm, Thermal Pad, IPC Low Density)
pins: 1 VIN (power), 2 ULVO (in), 3 RT/SYNC (in), 4 EN (in), 5 RAMP (in), 6 AGND (power), 7 SS (in), 8 FB (in), 9 COMP (out), 10 VOUT (in), 11 DEMB, 12 CS (in), 13 CSG, 14 PGND (power), 15 LO (out), 16 VCC (power), 17 VCCX (power), 18 HB, 19 HO (out), 20 SW (power), 21 EP (power)

## LM25116MHX/NOPB
designator U?
Wide Range Synchronous Buck Controller, 20-pin TSSOP-EP, Pb-Free; PartNumber: LM25116MHX/NOPB; Manufacturer: National Semiconductor; PackageTopMarking: NSUZXYTT*LM25116*MH; PowerWise: Y; CompType: Switcher; DatasheetVersion: Apr-2007; PackageVersion: revC, Jul-2006; PackageReference: MXA20A; PackageDescription: Molded TSSOP, Jedec, 6.5 x 4.4 x 0.9mm Body, 20 Lead, 0.65mm Pitch, Exposed Pad; RoHS: Y; PinCount: 20; High-Reliability: Y; Code_JEDEC: MO-153-ACT; ComponentLink1Description: Manufacturer URL; ComponentLink1URL: http://www.national.com/; ComponentLink2Description: LM25116 Datasheet; ComponentLink2URL: http://www.national.com/ds/LM/LM25116.pdf; ComponentLink3Description: LM25116 Web Page; ComponentLink3URL: http://www.national.com/pf/LM/LM25116.html; ComponentLink4Description: MXA20A Package Page; ComponentLink4URL: http://www.national.com/packaging/folders/mxa20a.html
footprint MXA20A_N (TSOP, 20-Leads, Body 6.5x4.4mm, Pitch 0.65mm, Thermal Pad, IPC Medium Density)
footprint MXA20A_L (TSOP, 20-Leads, Body 6.5x4.4mm, Pitch 0.65mm, Thermal Pad, IPC High Density)
footprint MXA20A_M (TSOP, 20-Leads, Body 6.5x4.4mm, Pitch 0.65mm, Thermal Pad, IPC Low Density)
pins: 1 VIN (power), 2 ULVO (in), 3 RT/SYNC (in), 4 EN (in), 5 RAMP (in), 6 AGND (power), 7 SS (in), 8 FB (in), 9 COMP (out), 10 VOUT (in), 11 DEMB, 12 CS (in), 13 CSG, 14 PGND (power), 15 LO (out), 16 VCC (power), 17 VCCX (power), 18 HB, 19 HO (out), 20 SW (power), 21 EP (power)

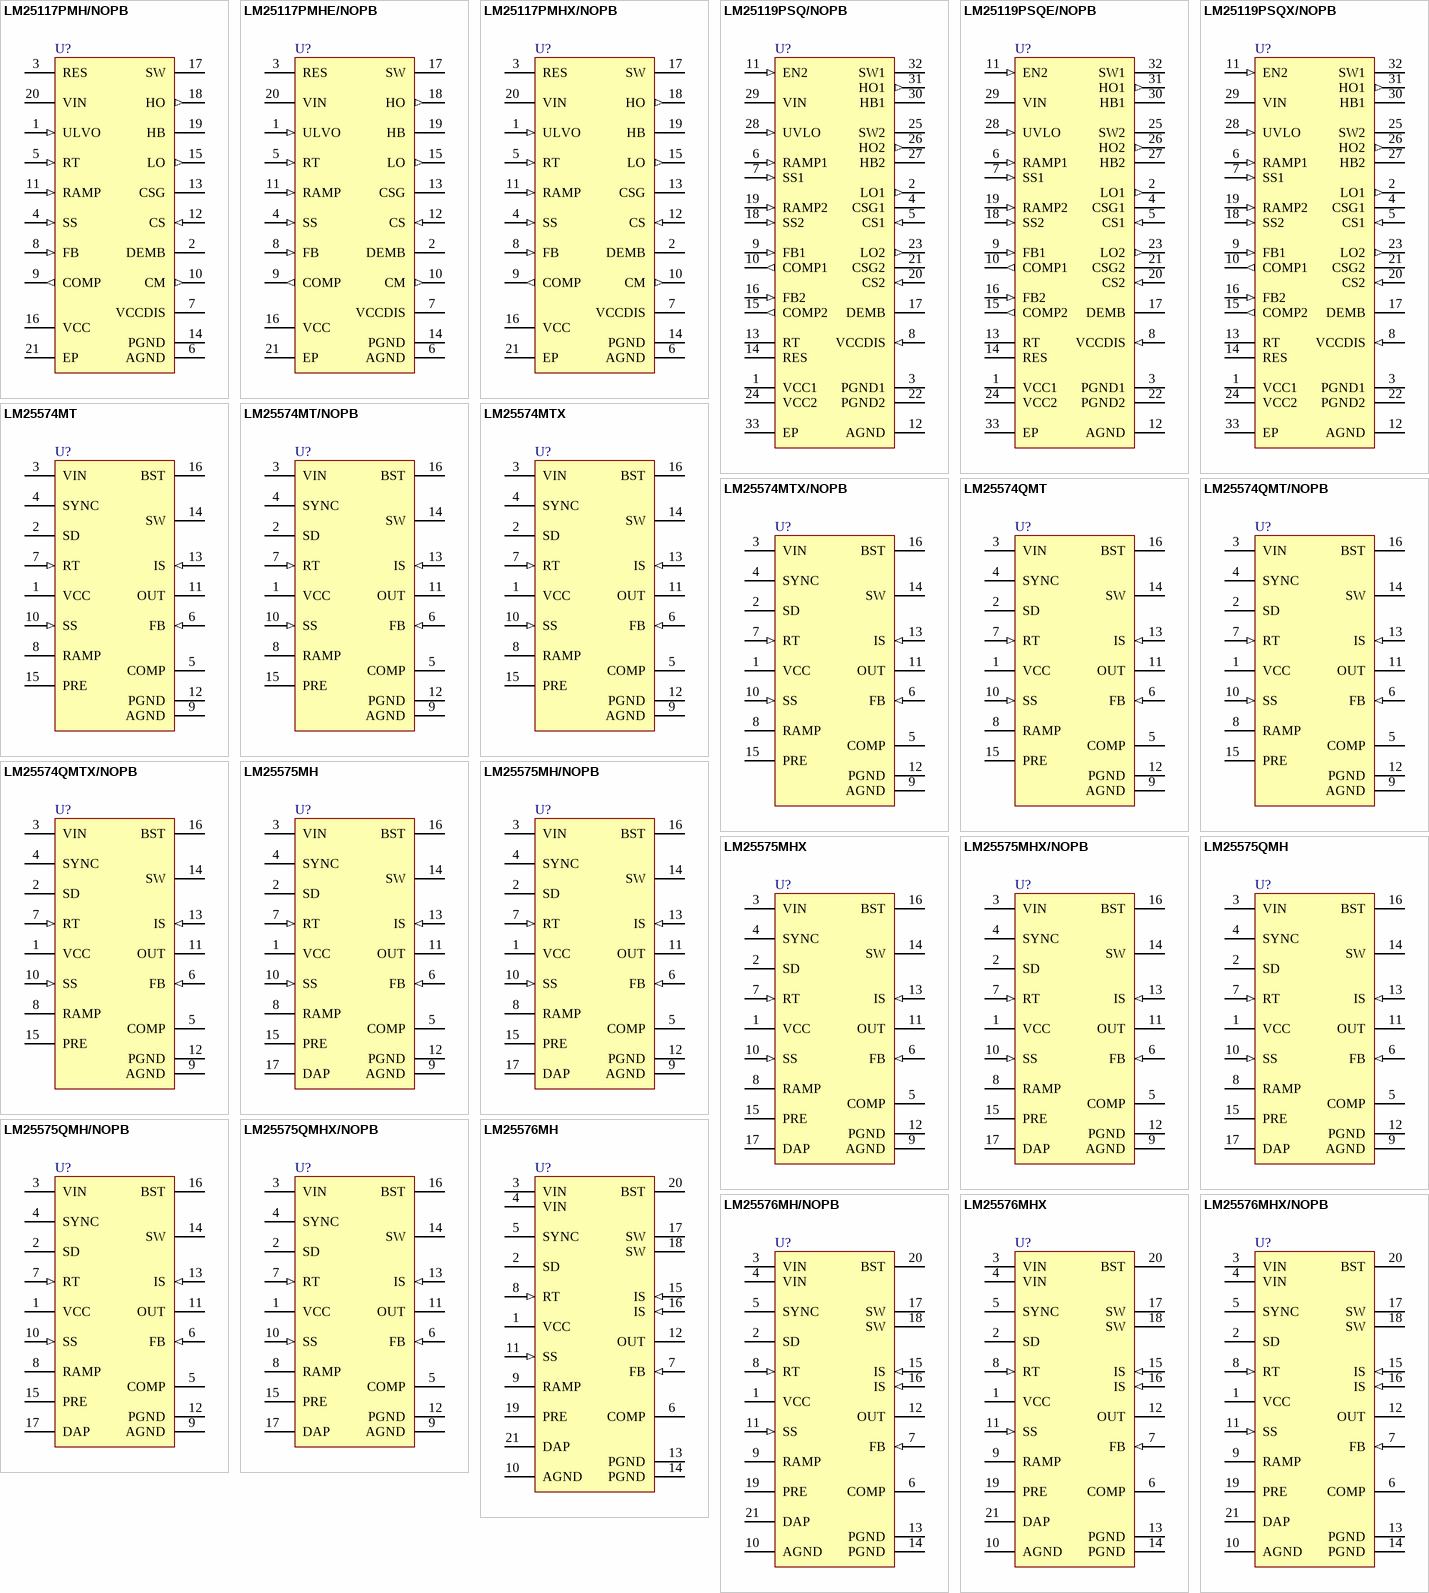
[diagram p57: symbols LM25117PMH/NOPB to LM25576MHX/NOPB]

## LM25117PMH/NOPB
designator U?
Wide Input Range Synchronous Buck Controller with Analog Current Monitor, 20-pin TSSOP-EP, 73 Rail; PartNumber: LM25117PMH/NOPB; Manufacturer: National Semiconductor; PackageTopMarking: NSUZXYTT*LM25117*PMH; PowerWise: Y; CompType: Switcher; DatasheetVersion: Sep-2011; PackageVersion: revC, Jul-2006; PackageReference: MXA20A; PackageDescription: Molded TSSOP, Jedec, 6.5 x 4.4 x 0.9mm Body, 20 Lead, 0.65mm Pitch, Exposed Pad; RoHS: Y; PinCount: 20; High-Reliability: Y; Code_JEDEC: MO-153-ACT; ComponentLink1Description: Manufacturer URL; ComponentLink1URL: http://www.national.com/; ComponentLink2Description: LM25117 Datasheet; ComponentLink2URL: http://www.national.com/ds/LM/LM25117.pdf; ComponentLink3Description: LM25117 Web Page; ComponentLink3URL: http://www.national.com/pf/LM/LM25117.html; ComponentLink4Description: MXA20A Package Page; ComponentLink4URL: http://www.national.com/packaging/folders/mxa20a.html
footprint MXA20A_N (TSOP, 20-Leads, Body 6.5x4.4mm, Pitch 0.65mm, Thermal Pad, IPC Medium Density)
footprint MXA20A_L (TSOP, 20-Leads, Body 6.5x4.4mm, Pitch 0.65mm, Thermal Pad, IPC High Density)
footprint MXA20A_M (TSOP, 20-Leads, Body 6.5x4.4mm, Pitch 0.65mm, Thermal Pad, IPC Low Density)
pins: 1 ULVO (in), 2 DEMB, 3 RES, 4 SS (in), 5 RT (in), 6 AGND (power), 7 VCCDIS, 8 FB (in), 9 COMP (out), 10 CM (out), 11 RAMP (in), 12 CS (in), 13 CSG, 14 PGND (power), 15 LO (out), 16 VCC (power), 17 SW (power), 18 HO (out), 19 HB, 20 VIN (power), 21 EP (power)

## LM25117PMHE/NOPB
designator U?
Wide Input Range Synchronous Buck Controller with Analog Current Monitor, 20-pin TSSOP-EP, 250 Reel; PartNumber: LM25117PMHE/NOPB; Manufacturer: National Semiconductor; PackageTopMarking: NSUZXYTT*LM25117*PMH; PowerWise: N; CompType: Switcher; High-Reliability: Y; DatasheetVersion: Sep-2011; PackageVersion: revC, Jul-2006; PackageReference: MXA20A; PackageDescription: Molded TSSOP, Jedec, 6.5 x 4.4 x 0.9mm Body, 20 Lead, 0.65mm Pitch, Exposed Pad; RoHS: Y; PinCount: 20; Code_JEDEC: MO-153-ACT; ComponentLink1Description: Manufacturer URL; ComponentLink1URL: http://www.national.com/; ComponentLink2Description: LM25117 Datasheet; ComponentLink2URL: http://www.national.com/ds/LM/LM25117.pdf; ComponentLink3Description: LM25117 Web Page; ComponentLink3URL: http://www.national.com/pf/LM/LM25117.html; ComponentLink4Description: MXA20A Package Page; ComponentLink4URL: http://www.national.com/packaging/folders/mxa20a.html
footprint MXA20A_N (TSOP, 20-Leads, Body 6.5x4.4mm, Pitch 0.65mm, Thermal Pad, IPC Medium Density)
footprint MXA20A_L (TSOP, 20-Leads, Body 6.5x4.4mm, Pitch 0.65mm, Thermal Pad, IPC High Density)
footprint MXA20A_M (TSOP, 20-Leads, Body 6.5x4.4mm, Pitch 0.65mm, Thermal Pad, IPC Low Density)
pins: 1 ULVO (in), 2 DEMB, 3 RES, 4 SS (in), 5 RT (in), 6 AGND (power), 7 VCCDIS, 8 FB (in), 9 COMP (out), 10 CM (out), 11 RAMP (in), 12 CS (in), 13 CSG, 14 PGND (power), 15 LO (out), 16 VCC (power), 17 SW (power), 18 HO (out), 19 HB, 20 VIN (power), 21 EP (power)

## LM25117PMHX/NOPB
designator U?
Wide Input Range Synchronous Buck Controller with Analog Current Monitor, 20-pin TSSOP-EP, 2500 Reel; PartNumber: LM25117PMHX/NOPB; Manufacturer: National Semiconductor; PackageTopMarking: NSUZXYTT*LM25117*PMH; PowerWise: Y; CompType: Switcher; DatasheetVersion: Sep-2011; PackageVersion: revC, Jul-2006; PackageReference: MXA20A; PackageDescription: Molded TSSOP, Jedec, 6.5 x 4.4 x 0.9mm Body, 20 Lead, 0.65mm Pitch, Exposed Pad; RoHS: Y; PinCount: 20; High-Reliability: Y; Code_JEDEC: MO-153-ACT; ComponentLink1Description: Manufacturer URL; ComponentLink1URL: http://www.national.com/; ComponentLink2Description: LM25117 Datasheet; ComponentLink2URL: http://www.national.com/ds/LM/LM25117.pdf; ComponentLink3Description: LM25117 Web Page; ComponentLink3URL: http://www.national.com/pf/LM/LM25117.html; ComponentLink4Description: MXA20A Package Page; ComponentLink4URL: http://www.national.com/packaging/folders/mxa20a.html
footprint MXA20A_N (TSOP, 20-Leads, Body 6.5x4.4mm, Pitch 0.65mm, Thermal Pad, IPC Medium Density)
footprint MXA20A_L (TSOP, 20-Leads, Body 6.5x4.4mm, Pitch 0.65mm, Thermal Pad, IPC High Density)
footprint MXA20A_M (TSOP, 20-Leads, Body 6.5x4.4mm, Pitch 0.65mm, Thermal Pad, IPC Low Density)
pins: 1 ULVO (in), 2 DEMB, 3 RES, 4 SS (in), 5 RT (in), 6 AGND (power), 7 VCCDIS, 8 FB (in), 9 COMP (out), 10 CM (out), 11 RAMP (in), 12 CS (in), 13 CSG, 14 PGND (power), 15 LO (out), 16 VCC (power), 17 SW (power), 18 HO (out), 19 HB, 20 VIN (power), 21 EP (power)

## LM25119PSQ/NOPB
designator U?
Wide Input Range Dual Synchronous Buck Controller, 32-pin LLP, 1000 Reel; PartNumber: LM25119PSQ/NOPB; Manufacturer: National Semiconductor; PackageTopMarking: NS*UZXYTT*L25119P; PowerWise: Y; CompType: Switcher; DatasheetVersion: Sep-2010; PackageVersion: revB, Oct-2009; PackageReference: SQA32A; PackageDescription: LLP, Quad, 5 x 5 x 0.8mm, 32 Lead, 0.5mm Pitch, No Pullback 3.1 x 3.1 Exposed Pad; RoHS: Y; PinCount: 32; High-Reliability: Y; ComponentLink1Description: Manufacturer URL; ComponentLink1URL: http://www.national.com/; ComponentLink2Description: LM25119 Datasheet; ComponentLink2URL: http://www.national.com/ds/LM/LM25119.pdf; ComponentLink3Description: LM25119 Web Page; ComponentLink3URL: http://www.national.com/pf/LM/LM25119.html; ComponentLink4Description: SQA32A Package Page; ComponentLink4URL: http://www.national.com/packaging/folders/sqa32a.html
footprint SQA32A (QFN, 32-Leads, Body 5x5mm, Pitch 0.5mm, Thermal Pad 3.2x3.2mm, NSC Recommended)
pins: 1 VCC1 (power), 2 LO1 (out), 3 PGND1 (power), 4 CSG1, 5 CS1 (in), 6 RAMP1 (in), 7 SS1 (in), 8 VCCDIS (in), 9 FB1 (in), 10 COMP1 (out), 11 EN2 (in), 12 AGND (power), 13 RT, 14 RES, 15 COMP2 (out), 16 FB2 (in), 17 DEMB, 18 SS2 (in), 19 RAMP2 (in), 20 CS2 (in), 21 CSG2, 22 PGND2 (power), 23 LO2 (out), 24 VCC2 (power), 25 SW2 (power), 26 HO2 (out), 27 HB2, 28 UVLO (in), 29 VIN (power), 30 HB1, 31 HO1 (out), 32 SW1 (power), 33 EP (power)

## LM25119PSQE/NOPB
designator U?
Wide Input Range Dual Synchronous Buck Controller, 32-pin LLP, 250 Reel; PartNumber: LM25119PSQE/NOPB; Manufacturer: National Semiconductor; PackageTopMarking: NS*UZXYTT*L25119P; PowerWise: Y; CompType: Switcher; DatasheetVersion: Sep-2010; PackageVersion: revB, Oct-2009; PackageReference: SQA32A; PackageDescription: LLP, Quad, 5 x 5 x 0.8mm, 32 Lead, 0.5mm Pitch, No Pullback 3.1 x 3.1 Exposed Pad; RoHS: Y; PinCount: 32; High-Reliability: Y; ComponentLink1Description: Manufacturer URL; ComponentLink1URL: http://www.national.com/; ComponentLink2Description: LM25119 Datasheet; ComponentLink2URL: http://www.national.com/ds/LM/LM25119.pdf; ComponentLink3Description: LM25119 Web Page; ComponentLink3URL: http://www.national.com/pf/LM/LM25119.html; ComponentLink4Description: SQA32A Package Page; ComponentLink4URL: http://www.national.com/packaging/folders/sqa32a.html
footprint SQA32A (QFN, 32-Leads, Body 5x5mm, Pitch 0.5mm, Thermal Pad 3.2x3.2mm, NSC Recommended)
pins: 1 VCC1 (power), 2 LO1 (out), 3 PGND1 (power), 4 CSG1, 5 CS1 (in), 6 RAMP1 (in), 7 SS1 (in), 8 VCCDIS (in), 9 FB1 (in), 10 COMP1 (out), 11 EN2 (in), 12 AGND (power), 13 RT, 14 RES, 15 COMP2 (out), 16 FB2 (in), 17 DEMB, 18 SS2 (in), 19 RAMP2 (in), 20 CS2 (in), 21 CSG2, 22 PGND2 (power), 23 LO2 (out), 24 VCC2 (power), 25 SW2 (power), 26 HO2 (out), 27 HB2, 28 UVLO (in), 29 VIN (power), 30 HB1, 31 HO1 (out), 32 SW1 (power), 33 EP (power)

## LM25119PSQX/NOPB
designator U?
Wide Input Range Dual Synchronous Buck Controller, 32-pin LLP, 4500 Reel; PartNumber: LM25119PSQX/NOPB; Manufacturer: National Semiconductor; PackageTopMarking: NS*UZXYTT*L25119P; PowerWise: Y; CompType: Switcher; DatasheetVersion: Sep-2010; PackageVersion: revB, Oct-2009; PackageReference: SQA32A; PackageDescription: LLP, Quad, 5 x 5 x 0.8mm, 32 Lead, 0.5mm Pitch, No Pullback 3.1 x 3.1 Exposed Pad; RoHS: Y; PinCount: 32; High-Reliability: Y; ComponentLink1Description: Manufacturer URL; ComponentLink1URL: http://www.national.com/; ComponentLink2Description: LM25119 Datasheet; ComponentLink2URL: http://www.national.com/ds/LM/LM25119.pdf; ComponentLink3Description: LM25119 Web Page; ComponentLink3URL: http://www.national.com/pf/LM/LM25119.html; ComponentLink4Description: SQA32A Package Page; ComponentLink4URL: http://www.national.com/packaging/folders/sqa32a.html
footprint SQA32A (QFN, 32-Leads, Body 5x5mm, Pitch 0.5mm, Thermal Pad 3.2x3.2mm, NSC Recommended)
pins: 1 VCC1 (power), 2 LO1 (out), 3 PGND1 (power), 4 CSG1, 5 CS1 (in), 6 RAMP1 (in), 7 SS1 (in), 8 VCCDIS (in), 9 FB1 (in), 10 COMP1 (out), 11 EN2 (in), 12 AGND (power), 13 RT, 14 RES, 15 COMP2 (out), 16 FB2 (in), 17 DEMB, 18 SS2 (in), 19 RAMP2 (in), 20 CS2 (in), 21 CSG2, 22 PGND2 (power), 23 LO2 (out), 24 VCC2 (power), 25 SW2 (power), 26 HO2 (out), 27 HB2, 28 UVLO (in), 29 VIN (power), 30 HB1, 31 HO1 (out), 32 SW1 (power), 33 EP (power)

## LM25574MT
designator U?
SIMPLE SWITCHER® 42V, 0.5A Step-Down Switching Regulator, 16-pin TSSOP; PartNumber: LM25574MT; Manufacturer: National Semiconductor; PackageTopMarking: NSUZXYTT*L25574*MT; PowerWise: Y; DatasheetVersion: Mar-2009; PackageVersion: revD, Jun-2003; PackageReference: MTC16; PackageDescription: Molded TSSOP, Jedec, 5 x 4.4 x 0.9mm Body, 16 Lead, 0.65mm Pitch; RoHS: N; PinCount: 16; CompType: Switcher; High-Reliability: Y; Code_JEDEC: MO-153-AB; ComponentLink1Description: Manufacturer URL; ComponentLink1URL: http://www.national.com/; ComponentLink2Description: LM25574 Datasheet; ComponentLink2URL: http://www.national.com/ds/LM/LM25574.pdf; ComponentLink3Description: LM25574 Web Page; ComponentLink3URL: http://www.national.com/pf/LM/LM25574.html; ComponentLink4Description: MTC16 Package Page; ComponentLink4URL: http://www.national.com/packaging/folders/mtc16.html
footprint MTC16_N (TSOP, 16-Leads, Body 5x4.4mm, Pitch 0.65mm, IPC Medium Density)
footprint MTC16_L (TSOP, 16-Leads, Body 5x4.4mm, Pitch 0.65mm, IPC High Density)
footprint MTC16_M (TSOP, 16-Leads, Body 5x4.4mm, Pitch 0.65mm, IPC Low Density)
pins: 1 VCC (power), 2 SD, 3 VIN (power), 4 SYNC, 5 COMP, 6 FB (in), 7 RT (in), 8 RAMP, 9 AGND (power), 10 SS (in), 11 OUT (power), 12 PGND (power), 13 IS (in), 14 SW (power), 15 PRE (oc), 16 BST

## LM25574MT/NOPB
designator U?
SIMPLE SWITCHER® 42V, 0.5A Step-Down Switching Regulator, 16-pin TSSOP, Pb-Free; PartNumber: LM25574MT/NOPB; Manufacturer: National Semiconductor; PackageTopMarking: NSUZXYTT*L25574*MT; PowerWise: Y; DatasheetVersion: Mar-2009; PackageVersion: revD, Jun-2003; PackageReference: MTC16; PackageDescription: Molded TSSOP, Jedec, 5 x 4.4 x 0.9mm Body, 16 Lead, 0.65mm Pitch; RoHS: Y; PinCount: 16; CompType: Switcher; High-Reliability: Y; Code_JEDEC: MO-153-AB; ComponentLink1Description: Manufacturer URL; ComponentLink1URL: http://www.national.com/; ComponentLink2Description: LM25574 Datasheet; ComponentLink2URL: http://www.national.com/ds/LM/LM25574.pdf; ComponentLink3Description: LM25574 Web Page; ComponentLink3URL: http://www.national.com/pf/LM/LM25574.html; ComponentLink4Description: MTC16 Package Page; ComponentLink4URL: http://www.national.com/packaging/folders/mtc16.html
footprint MTC16_N (TSOP, 16-Leads, Body 5x4.4mm, Pitch 0.65mm, IPC Medium Density)
footprint MTC16_L (TSOP, 16-Leads, Body 5x4.4mm, Pitch 0.65mm, IPC High Density)
footprint MTC16_M (TSOP, 16-Leads, Body 5x4.4mm, Pitch 0.65mm, IPC Low Density)
pins: 1 VCC (power), 2 SD, 3 VIN (power), 4 SYNC, 5 COMP, 6 FB (in), 7 RT (in), 8 RAMP, 9 AGND (power), 10 SS (in), 11 OUT (power), 12 PGND (power), 13 IS (in), 14 SW (power), 15 PRE (oc), 16 BST

## LM25574MTX
designator U?
SIMPLE SWITCHER® 42V, 0.5A Step-Down Switching Regulator, 16-pin TSSOP; PartNumber: LM25574MTX; Manufacturer: National Semiconductor; PackageTopMarking: NSUZXYTT*L25574*MT; PowerWise: Y; DatasheetVersion: Mar-2009; PackageVersion: revD, Jun-2003; PackageReference: MTC16; PackageDescription: Molded TSSOP, Jedec, 5 x 4.4 x 0.9mm Body, 16 Lead, 0.65mm Pitch; RoHS: N; PinCount: 16; CompType: Switcher; High-Reliability: Y; Code_JEDEC: MO-153-AB; ComponentLink1Description: Manufacturer URL; ComponentLink1URL: http://www.national.com/; ComponentLink2Description: LM25574 Datasheet; ComponentLink2URL: http://www.national.com/ds/LM/LM25574.pdf; ComponentLink3Description: LM25574 Web Page; ComponentLink3URL: http://www.national.com/pf/LM/LM25574.html; ComponentLink4Description: MTC16 Package Page; ComponentLink4URL: http://www.national.com/packaging/folders/mtc16.html
footprint MTC16_N (TSOP, 16-Leads, Body 5x4.4mm, Pitch 0.65mm, IPC Medium Density)
footprint MTC16_L (TSOP, 16-Leads, Body 5x4.4mm, Pitch 0.65mm, IPC High Density)
footprint MTC16_M (TSOP, 16-Leads, Body 5x4.4mm, Pitch 0.65mm, IPC Low Density)
pins: 1 VCC (power), 2 SD, 3 VIN (power), 4 SYNC, 5 COMP, 6 FB (in), 7 RT (in), 8 RAMP, 9 AGND (power), 10 SS (in), 11 OUT (power), 12 PGND (power), 13 IS (in), 14 SW (power), 15 PRE (oc), 16 BST